# Altium integrated library P6KE24A.IntLib: 1 symbol
Pins are listed as number, name and electrical type; pins without a type are passive.

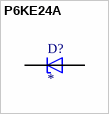
[diagram p0: symbol P6KE24A]

## P6KE24A
designator D?
600W, 24V, 5%, Unidirectional, TVS; MF: Taiwan Semiconductor; MP: P6KE24A; Package: DO-15 Taiwan Semiconductor; Value: *; Purchase-URL: https://pricing.snapeda.com/search/part/P6KE24A/?ref=eda; Availability: In Stock; Check_prices: https://www.snapeda.com/parts/P6KE24A/Taiwan+Semiconductor/view-part/?ref=eda; SnapEDA_Link: https://www.snapeda.com/parts/P6KE24A/Taiwan+Semiconductor/view-part/?ref=snap; Price: None
footprint DIOAD1300W80L670D310
pins: A, C